# EAGLE library part LCAMP_INA333 (library lcamp)
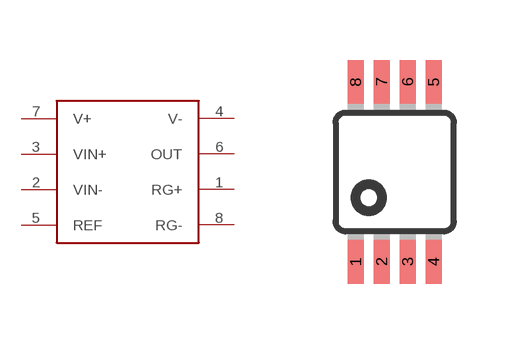
[diagram p0: symbol with the pads of LCAMP_MSOP8; footprint LCAMP_MSOP8]

Designator prefix U

## LCAMP_INA333MSOP8  [LCAMP_MSOP8]
1  RG+
2  VIN-
3  VIN+
4  V-
5  REF
6  OUT
7  V+
8  RG-

## Footprint LCAMP_MSOP8 (pad centres in mm)
8M, 8-Lead, 0.118" Wide, Miniature Small Outline Package MSOP 8M-Package doc1097.pdf
smd 0.4 x 1.1: 1 -0.975,-2.25; 2 -0.325,-2.25; 3 0.325,-2.25; 4 0.975,-2.25; 5 0.975,2.25; 6 0.325,2.25; 7 -0.325,2.25; 8 -0.975,2.25